# EAGLE library part ARDUINO-PRO-MINI (library 0_MyLIB)
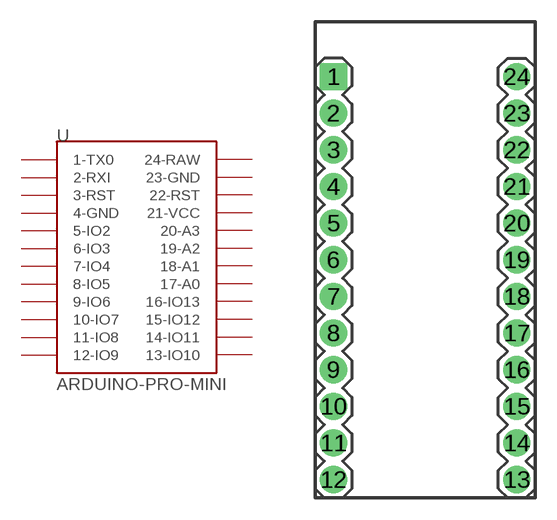
[diagram p15: symbol with the pads of ARDUINO-PROMINI; footprint ARDUINO-PROMINI]

Designator prefix -

## ARDUINO-PRO-MINI  [ARDUINO-PROMINI]
1  1-TX0  pas
2  2-RXI  pas
3  3-RST  pas
4  4-GND  pas
5  5-IO2  pas
6  6-IO3  pas
7  7-IO4  pas
8  8-IO5  pas
9  9-IO6  pas
10  10-IO7  pas
11  11-IO8  pas
12  12-IO9  pas
13  13-IO10  pas
14  14-IO11  pas
15  15-IO12  pas
16  16-IO13  pas
17  17-A0  pas
18  18-A1  pas
19  19-A2  pas
20  20-A3  pas
21  21-VCC  pas
22  22-RST  pas
23  23-GND  pas
24  24-RAW  pas

## Footprint ARDUINO-PROMINI (pad centres in mm)
drill 1.016 pad 1.88 square: 1 0,0
drill 1.016 pad 1.88: 2 0,-2.54; 3 0,-5.08; 4 0,-7.62; 5 0,-10.16; 6 0,-12.7; 7 0,-15.24; 8 0,-17.78; 9 0,-20.32; 10 0,-22.86; 11 0,-25.4; 12 0,-27.94; 13 12.7,-27.94; 14 12.7,-25.4; 15 12.7,-22.86; 16 12.7,-20.32; 17 12.7,-17.78; 18 12.7,-15.24; 19 12.7,-12.7; 20 12.7,-10.16; 21 12.7,-7.62; 22 12.7,-5.08; 23 12.7,-2.54; 24 12.7,0